# Altium schematic symbol library Pin_Header_Series_SCH_Library_ARAF.SchLib: 6 symbols
Pins are listed as number, name and electrical type; pins without a type are passive.

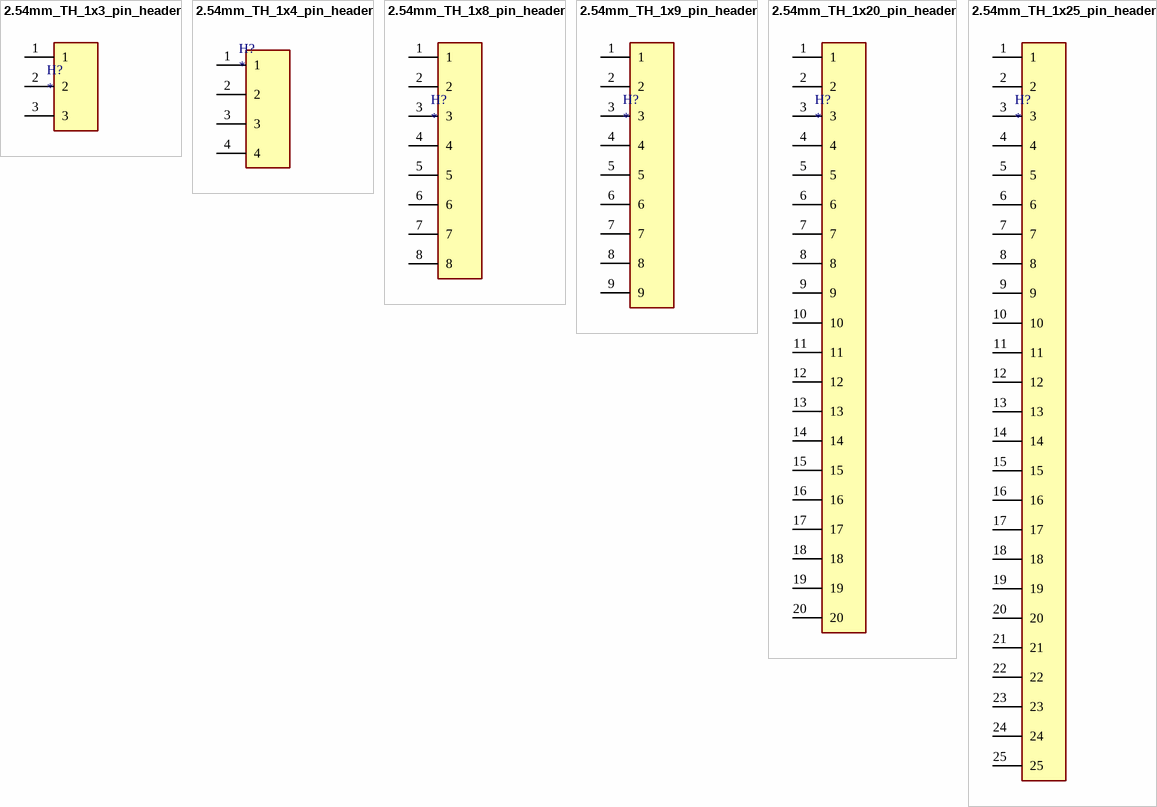
[diagram p0: symbols 2.54mm_TH_1x3_pin_header to 2.54mm_TH_1x25_pin_header]

## 2.54mm_TH_1x3_pin_header
designator H?
footprint 2.54mm_TH_1x3_pin_header
pins: 1, 2, 3

## 2.54mm_TH_1x4_pin_header
designator H?
footprint 2.54mm_TH_1x4_pin_header
pins: 1, 2, 3, 4

## 2.54mm_TH_1x8_pin_header
designator H?
footprint 2.54mm_TH_1x8_pin_header
pins: 1, 2, 3, 4, 5, 6, 7, 8

## 2.54mm_TH_1x9_pin_header
designator H?
footprint 2.54mm_TH_1x9_pin_header
pins: 1, 2, 3, 4, 5, 6, 7, 8, 9

## 2.54mm_TH_1x20_pin_header
designator H?
footprint 2.54mm_TH_1x20_pin_header
pins: 1, 2, 3, 4, 5, 6, 7, 8, 9, 10, 11, 12, 13, 14, 15, 16, 17, 18, 19, 20

## 2.54mm_TH_1x25_pin_header
designator H?
footprint 2.54mm_TH_1x25_pin_header
pins: 1, 2, 3, 4, 5, 6, 7, 8, 9, 10, 11, 12, 13, 14, 15, 16, 17, 18, 19, 20, 21, 22, 23, 24, 25